# Altium footprint library SULLINS_PPPC042LFBN-RC.PcbLib: 1 footprints
Each footprint in its own frame and in the unit in brackets; x right, y up, seen from the top. Pads: shape width x height; smd on the part's side, far side on the other; paste and mask are expansions set on the pad; w line width, h text height; cw(c..) or ccw(c..) is an arc to the next point about the centre after c.
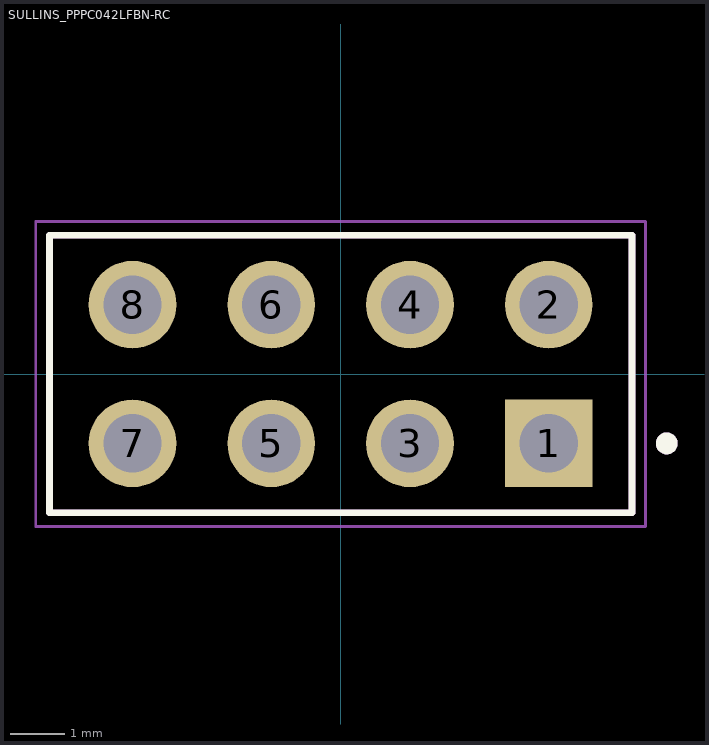
[diagram p0: the footprint, top view; thin cyan lines are the x and y axes]

## SULLINS_PPPC042LFBN-RC [mm]
height 8.5
pads (8):
  rect 1.605x1.605 / inner round 1.605 / far side rect 1.605x1.605 hole 1.07: 1(3.81,-1.27)
  round 1.605 hole 1.07: 2(3.81,1.27) 3(1.27,-1.27) 4(1.27,1.27) 5(-1.27,-1.27) 6(-1.27,1.27) 7(-3.81,-1.27) 8(-3.81,1.27)
Top Overlay:
  circle w0.2: c5.969,-1.27 r0.1
  lines w0.127: -5.33,-2.54 5.33,-2.54 5.33,2.54 -5.33,2.54 -5.33,-2.54
Assembly Top:
  circle w0.2: c5.969,-1.27 r0.1
  lines w0.127: -5.33,-2.54 5.33,-2.54 5.33,2.54 -5.33,2.54 -5.33,-2.54
Courtyard Top:
  lines w0.05: -5.58,-2.79 5.58,-2.79 5.58,2.79 -5.58,2.79 -5.58,-2.79
3D body "step_temp.STEP": height 8.51, standoff -3.2, extent -5.334,-2.54 5.334,2.54